# Altium footprint library pinhead.PCBLIB: 100 footprints (part 3 of 7)
Each footprint in its own frame and in the unit in brackets; x right, y up, seen from the top. Pads: shape width x height; smd on the part's side, far side on the other; paste and mask are expansions set on the pad; w line width, h text height; cw(c..) or ccw(c..) is an arc to the next point about the centre after c.
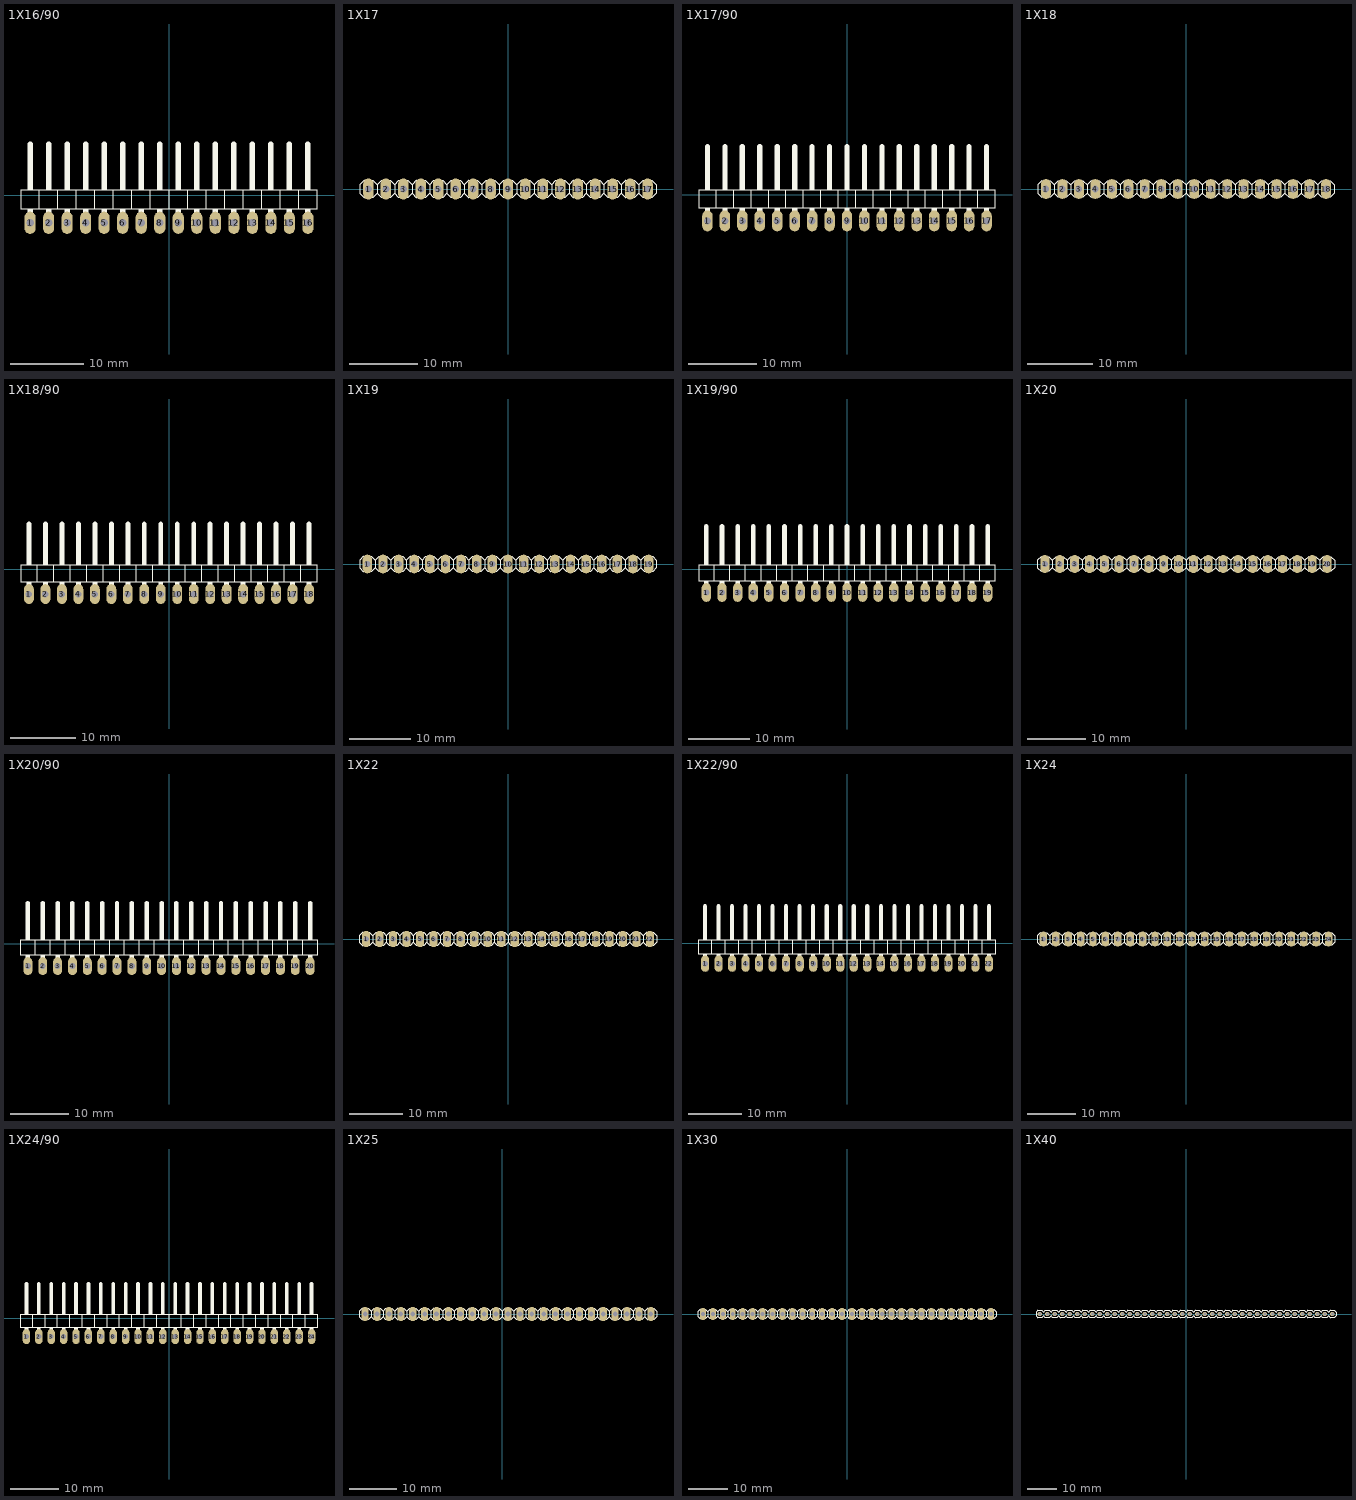
[diagram p2: the footprints below, top view; thin cyan lines are the x and y axes]

## 1X16/90 [mil]
pads (16):
  oval 60x120 hole 40: 1(-750,-150) 2(-650,-150) 3(-550,-150) 4(-450,-150) 5(-350,-150) 6(-250,-150) 7(-150,-150) 8(-50,-150) 9(50,-150) 10(150,-150) 11(250,-150) 12(350,-150) 13(450,-150) 14(550,-150) 15(650,-150) 16(750,-150)
Top Overlay:
  rectangle: -765,25 -735,45
  rectangle: -665,25 -635,45
  rectangle: -565,25 -535,45
  rectangle: -465,25 -435,45
  rectangle: -365,25 -335,45
  rectangle: -265,25 -235,45
  rectangle: -165,25 -135,45
  rectangle: -65,25 -35,45
  rectangle: 35,25 65,45
  rectangle: 135,25 165,45
  rectangle: 235,25 265,45
  rectangle: 335,25 365,45
  rectangle: 435,25 465,45
  rectangle: 535,25 565,45
  rectangle: 635,25 665,45
  rectangle: 735,25 765,45
  rectangle: -765,-115 -735,-75
  rectangle: -665,-115 -635,-75
  rectangle: -565,-115 -535,-75
  rectangle: -465,-115 -435,-75
  rectangle: -365,-115 -335,-75
  rectangle: -265,-115 -235,-75
  rectangle: -165,-115 -135,-75
  rectangle: -65,-115 -35,-75
  rectangle: 35,-115 65,-75
  rectangle: 135,-115 165,-75
  rectangle: 235,-115 265,-75
  rectangle: 335,-115 365,-75
  rectangle: 435,-115 465,-75
  rectangle: 535,-115 565,-75
  rectangle: 635,-115 665,-75
  rectangle: 735,-115 765,-75
  lines w6: -700,-75 -800,-75 -800,25 -700,25 ; -700,-75 -700,25 ; -700,-75 -600,-75 ; -700,25 -600,25 ; -600,-75 -600,25 ; -600,-75 -500,-75 ; -600,25 -500,25 ; -500,-75 -500,25 ; -500,-75 -400,-75 ; -500,25 -400,25 ; -400,-75 -400,25 ; -400,-75 -300,-75 ; -400,25 -300,25 ; -300,-75 -300,25 ; -300,-75 -200,-75 ; -300,25 -200,25 ; -200,-75 -200,25 ; -200,-75 -100,-75 ; -200,25 -100,25 ; -100,-75 -100,25 ; -100,-75 0,-75 ; -100,25 0,25 ; 0,-75 0,25 ; 0,-75 100,-75 ; 0,25 100,25 ; 100,-75 100,25 ; 100,-75 200,-75 ; 100,25 200,25 ; 200,-75 200,25 ; 200,-75 300,-75 ; 200,25 300,25 ; 300,-75 300,25 ; 300,-75 400,-75 ; 300,25 400,25 ; 400,-75 400,25 ; 400,-75 500,-75 ; 400,25 500,25 ; 500,-75 500,25 ; 500,-75 600,-75 ; 500,25 600,25 ; 600,-75 600,25 ; 600,-75 700,-75 ; 600,25 700,25 ; 700,-75 700,25 ; 700,-75 800,-75 800,25 700,25
  lines w30: -750,50 -750,275 ; -650,50 -650,275 ; -550,50 -550,275 ; -450,50 -450,275 ; -350,50 -350,275 ; -250,50 -250,275 ; -150,50 -150,275 ; -50,50 -50,275 ; 50,50 50,275 ; 150,50 150,275 ; 250,50 250,275 ; 350,50 350,275 ; 450,50 450,275 ; 550,50 550,275 ; 650,50 650,275 ; 750,50 750,275

## 1X17 [mil]
pads (17):
  oval 60x120 hole 40: 1(-800,0) 2(-700,0) 3(-600,0) 4(-500,0) 5(-400,0) 6(-300,0) 7(-200,0) 8(-100,0) 9(0,0) 10(100,0) 11(200,0) 12(300,0) 13(400,0) 14(500,0) 15(600,0) 16(700,0) 17(800,0)
Top Overlay:
  lines w6: -750,-25 -750,25 ; -750,-25 -775,-50 -825,-50 -850,-25 -850,25 -825,50 -775,50 -750,25 ; -750,-25 -725,-50 -675,-50 -650,-25 ; -750,25 -725,50 -675,50 -650,25 ; -650,-25 -625,-50 -575,-50 -550,-25 ; -650,-25 -650,25 ; -650,25 -625,50 -575,50 -550,25 ; -550,-25 -550,25 ; -550,-25 -525,-50 -475,-50 -450,-25 ; -550,25 -525,50 -475,50 -450,25 ; -450,-25 -450,25 ; -450,-25 -425,-50 -375,-50 -350,-25 ; -450,25 -425,50 -375,50 -350,25 ; -350,-25 -325,-50 -275,-50 -250,-25 ; -350,-25 -350,25 ; -350,25 -325,50 -275,50 -250,25 ; -250,-25 -250,25 ; -250,-25 -225,-50 -175,-50 -150,-25 ; -250,25 -225,50 -175,50 -150,25 ; -150,-25 -150,25 ; -150,-25 -125,-50 -75,-50 -50,-25 ; -150,25 -125,50 -75,50 -50,25 ; -50,-25 -25,-50 25,-50 50,-25 ; -50,-25 -50,25 ; -50,25 -25,50 25,50 50,25 ; 50,-25 50,25 ; 50,-25 75,-50 125,-50 150,-25 ; 50,25 75,50 125,50 150,25 ; 150,-25 150,25 ; 150,-25 175,-50 225,-50 250,-25 ; 150,25 175,50 225,50 250,25 ; 250,-25 275,-50 325,-50 350,-25 ; 250,-25 250,25 ; 250,25 275,50 325,50 350,25 ; 350,-25 350,25 ; 350,-25 375,-50 425,-50 450,-25 ; 350,25 375,50 425,50 450,25 ; 450,-25 450,25 ; 450,-25 475,-50 525,-50 550,-25 ; 450,25 475,50 525,50 550,25 ; 550,-25 575,-50 625,-50 650,-25 ; 550,-25 550,25 ; 550,25 575,50 625,50 650,25 ; 650,-25 650,25 ; 650,-25 675,-50 725,-50 750,-25 ; 650,25 675,50 725,50 750,25 ; 750,-25 750,25 ; 750,-25 775,-50 825,-50 850,-25 850,25 825,50 775,50 750,25
Mechanical 16:
  rectangle: 690,-10 710,10
  rectangle: 590,-10 610,10
  rectangle: 490,-10 510,10
  rectangle: 390,-10 410,10
  rectangle: 290,-10 310,10
  rectangle: 190,-10 210,10
  rectangle: 90,-10 110,10
  rectangle: -10,-10 10,10
  rectangle: -110,-10 -90,10
  rectangle: -210,-10 -190,10
  rectangle: -310,-10 -290,10
  rectangle: -410,-10 -390,10
  rectangle: -510,-10 -490,10
  rectangle: -610,-10 -590,10
  rectangle: -710,-10 -690,10
  rectangle: -810,-10 -790,10
  rectangle: 790,-10 810,10

## 1X17/90 [mil]
pads (17):
  oval 60x120 hole 40: 1(-800,-150) 2(-700,-150) 3(-600,-150) 4(-500,-150) 5(-400,-150) 6(-300,-150) 7(-200,-150) 8(-100,-150) 9(0,-150) 10(100,-150) 11(200,-150) 12(300,-150) 13(400,-150) 14(500,-150) 15(600,-150) 16(700,-150) 17(800,-150)
Top Overlay:
  rectangle: -815,25 -785,45
  rectangle: -715,25 -685,45
  rectangle: -615,25 -585,45
  rectangle: -515,25 -485,45
  rectangle: -415,25 -385,45
  rectangle: -315,25 -285,45
  rectangle: -215,25 -185,45
  rectangle: -115,25 -85,45
  rectangle: -15,25 15,45
  rectangle: 85,25 115,45
  rectangle: 185,25 215,45
  rectangle: 285,25 315,45
  rectangle: 385,25 415,45
  rectangle: 485,25 515,45
  rectangle: 585,25 615,45
  rectangle: 685,25 715,45
  rectangle: 785,25 815,45
  rectangle: -815,-115 -785,-75
  rectangle: -715,-115 -685,-75
  rectangle: -615,-115 -585,-75
  rectangle: -515,-115 -485,-75
  rectangle: -415,-115 -385,-75
  rectangle: -315,-115 -285,-75
  rectangle: -215,-115 -185,-75
  rectangle: -115,-115 -85,-75
  rectangle: -15,-115 15,-75
  rectangle: 85,-115 115,-75
  rectangle: 185,-115 215,-75
  rectangle: 285,-115 315,-75
  rectangle: 385,-115 415,-75
  rectangle: 485,-115 515,-75
  rectangle: 585,-115 615,-75
  rectangle: 685,-115 715,-75
  rectangle: 785,-115 815,-75
  lines w6: -750,-75 -850,-75 -850,25 -750,25 ; -750,-75 -750,25 ; -750,-75 -650,-75 ; -750,25 -650,25 ; -650,-75 -650,25 ; -650,-75 -550,-75 ; -650,25 -550,25 ; -550,-75 -550,25 ; -550,-75 -450,-75 ; -550,25 -450,25 ; -450,-75 -450,25 ; -450,-75 -350,-75 ; -450,25 -350,25 ; -350,-75 -350,25 ; -350,-75 -250,-75 ; -350,25 -250,25 ; -250,-75 -250,25 ; -250,-75 -150,-75 ; -250,25 -150,25 ; -150,-75 -150,25 ; -150,-75 -50,-75 ; -150,25 -50,25 ; -50,-75 -50,25 ; -50,-75 50,-75 ; -50,25 50,25 ; 50,-75 50,25 ; 50,-75 150,-75 ; 50,25 150,25 ; 150,-75 150,25 ; 150,-75 250,-75 ; 150,25 250,25 ; 250,-75 250,25 ; 250,-75 350,-75 ; 250,25 350,25 ; 350,-75 350,25 ; 350,-75 450,-75 ; 350,25 450,25 ; 450,-75 450,25 ; 450,-75 550,-75 ; 450,25 550,25 ; 550,-75 550,25 ; 550,-75 650,-75 ; 550,25 650,25 ; 650,-75 650,25 ; 650,-75 750,-75 ; 650,25 750,25 ; 750,-75 750,25 ; 750,-75 850,-75 850,25 750,25
  lines w30: -800,50 -800,275 ; -700,50 -700,275 ; -600,50 -600,275 ; -500,50 -500,275 ; -400,50 -400,275 ; -300,50 -300,275 ; -200,50 -200,275 ; -100,50 -100,275 ; 0,50 0,275 ; 100,50 100,275 ; 200,50 200,275 ; 300,50 300,275 ; 400,50 400,275 ; 500,50 500,275 ; 600,50 600,275 ; 700,50 700,275 ; 800,50 800,275

## 1X18 [mil]
pads (18):
  oval 60x120 hole 40: 1(-850,0) 2(-750,0) 3(-650,0) 4(-550,0) 5(-450,0) 6(-350,0) 7(-250,0) 8(-150,0) 9(-50,0) 10(50,0) 11(150,0) 12(250,0) 13(350,0) 14(450,0) 15(550,0) 16(650,0) 17(750,0) 18(850,0)
Top Overlay:
  lines w6: -800,-25 -800,25 ; -800,-25 -825,-50 -875,-50 -900,-25 -900,25 -875,50 -825,50 -800,25 ; -800,-25 -775,-50 -725,-50 -700,-25 ; -800,25 -775,50 -725,50 -700,25 ; -700,-25 -675,-50 -625,-50 -600,-25 ; -700,-25 -700,25 ; -700,25 -675,50 -625,50 -600,25 ; -600,-25 -600,25 ; -600,-25 -575,-50 -525,-50 -500,-25 ; -600,25 -575,50 -525,50 -500,25 ; -500,-25 -500,25 ; -500,-25 -475,-50 -425,-50 -400,-25 ; -500,25 -475,50 -425,50 -400,25 ; -400,-25 -375,-50 -325,-50 -300,-25 ; -400,-25 -400,25 ; -400,25 -375,50 -325,50 -300,25 ; -300,-25 -300,25 ; -300,-25 -275,-50 -225,-50 -200,-25 ; -300,25 -275,50 -225,50 -200,25 ; -200,-25 -200,25 ; -200,-25 -175,-50 -125,-50 -100,-25 ; -200,25 -175,50 -125,50 -100,25 ; -100,-25 -75,-50 -25,-50 0,-25 ; -100,-25 -100,25 ; -100,25 -75,50 -25,50 0,25 ; 0,-25 0,25 ; 0,-25 25,-50 75,-50 100,-25 ; 0,25 25,50 75,50 100,25 ; 100,-25 100,25 ; 100,-25 125,-50 175,-50 200,-25 ; 100,25 125,50 175,50 200,25 ; 200,-25 225,-50 275,-50 300,-25 ; 200,-25 200,25 ; 200,25 225,50 275,50 300,25 ; 300,-25 300,25 ; 300,-25 325,-50 375,-50 400,-25 ; 300,25 325,50 375,50 400,25 ; 400,-25 400,25 ; 400,-25 425,-50 475,-50 500,-25 ; 400,25 425,50 475,50 500,25 ; 500,-25 525,-50 575,-50 600,-25 ; 500,-25 500,25 ; 500,25 525,50 575,50 600,25 ; 600,-25 600,25 ; 600,-25 625,-50 675,-50 700,-25 ; 600,25 625,50 675,50 700,25 ; 700,-25 700,25 ; 700,-25 725,-50 775,-50 800,-25 ; 700,25 725,50 775,50 800,25 ; 800,-25 800,25 ; 800,-25 825,-50 875,-50 900,-25 900,25 875,50 825,50 800,25
Mechanical 16:
  rectangle: 740,-10 760,10
  rectangle: 640,-10 660,10
  rectangle: 540,-10 560,10
  rectangle: 440,-10 460,10
  rectangle: 340,-10 360,10
  rectangle: 240,-10 260,10
  rectangle: 140,-10 160,10
  rectangle: 40,-10 60,10
  rectangle: -60,-10 -40,10
  rectangle: -160,-10 -140,10
  rectangle: -260,-10 -240,10
  rectangle: -360,-10 -340,10
  rectangle: -460,-10 -440,10
  rectangle: -560,-10 -540,10
  rectangle: -660,-10 -640,10
  rectangle: -760,-10 -740,10
  rectangle: -860,-10 -840,10
  rectangle: 840,-10 860,10

## 1X18/90 [mil]
pads (18):
  oval 60x120 hole 40: 1(-850,-150) 2(-750,-150) 3(-650,-150) 4(-550,-150) 5(-450,-150) 6(-350,-150) 7(-250,-150) 8(-150,-150) 9(-50,-150) 10(50,-150) 11(150,-150) 12(250,-150) 13(350,-150) 14(450,-150) 15(550,-150) 16(650,-150) 17(750,-150) 18(850,-150)
Top Overlay:
  rectangle: -865,25 -835,45
  rectangle: -765,25 -735,45
  rectangle: -665,25 -635,45
  rectangle: -565,25 -535,45
  rectangle: -465,25 -435,45
  rectangle: -365,25 -335,45
  rectangle: -265,25 -235,45
  rectangle: -165,25 -135,45
  rectangle: -65,25 -35,45
  rectangle: 35,25 65,45
  rectangle: 135,25 165,45
  rectangle: 235,25 265,45
  rectangle: 335,25 365,45
  rectangle: 435,25 465,45
  rectangle: 535,25 565,45
  rectangle: 635,25 665,45
  rectangle: 735,25 765,45
  rectangle: 835,25 865,45
  rectangle: -865,-115 -835,-75
  rectangle: -765,-115 -735,-75
  rectangle: -665,-115 -635,-75
  rectangle: -565,-115 -535,-75
  rectangle: -465,-115 -435,-75
  rectangle: -365,-115 -335,-75
  rectangle: -265,-115 -235,-75
  rectangle: -165,-115 -135,-75
  rectangle: -65,-115 -35,-75
  rectangle: 35,-115 65,-75
  rectangle: 135,-115 165,-75
  rectangle: 235,-115 265,-75
  rectangle: 335,-115 365,-75
  rectangle: 435,-115 465,-75
  rectangle: 535,-115 565,-75
  rectangle: 635,-115 665,-75
  rectangle: 735,-115 765,-75
  rectangle: 835,-115 865,-75
  lines w6: -800,-75 -900,-75 -900,25 -800,25 ; -800,-75 -800,25 ; -800,-75 -700,-75 ; -800,25 -700,25 ; -700,-75 -700,25 ; -700,-75 -600,-75 ; -700,25 -600,25 ; -600,-75 -600,25 ; -600,-75 -500,-75 ; -600,25 -500,25 ; -500,-75 -500,25 ; -500,-75 -400,-75 ; -500,25 -400,25 ; -400,-75 -400,25 ; -400,-75 -300,-75 ; -400,25 -300,25 ; -300,-75 -300,25 ; -300,-75 -200,-75 ; -300,25 -200,25 ; -200,-75 -200,25 ; -200,-75 -100,-75 ; -200,25 -100,25 ; -100,-75 -100,25 ; -100,-75 0,-75 ; -100,25 0,25 ; 0,-75 0,25 ; 0,-75 100,-75 ; 0,25 100,25 ; 100,-75 100,25 ; 100,-75 200,-75 ; 100,25 200,25 ; 200,-75 200,25 ; 200,-75 300,-75 ; 200,25 300,25 ; 300,-75 300,25 ; 300,-75 400,-75 ; 300,25 400,25 ; 400,-75 400,25 ; 400,-75 500,-75 ; 400,25 500,25 ; 500,-75 500,25 ; 500,-75 600,-75 ; 500,25 600,25 ; 600,-75 600,25 ; 600,-75 700,-75 ; 600,25 700,25 ; 700,-75 700,25 ; 700,-75 800,-75 ; 700,25 800,25 ; 800,-75 800,25 ; 800,-75 900,-75 900,25 800,25
  lines w30: -850,50 -850,275 ; -750,50 -750,275 ; -650,50 -650,275 ; -550,50 -550,275 ; -450,50 -450,275 ; -350,50 -350,275 ; -250,50 -250,275 ; -150,50 -150,275 ; -50,50 -50,275 ; 50,50 50,275 ; 150,50 150,275 ; 250,50 250,275 ; 350,50 350,275 ; 450,50 450,275 ; 550,50 550,275 ; 650,50 650,275 ; 750,50 750,275 ; 850,50 850,275

## 1X19 [mil]
pads (19):
  oval 60x120 hole 40: 1(-900,0) 2(-800,0) 3(-700,0) 4(-600,0) 5(-500,0) 6(-400,0) 7(-300,0) 8(-200,0) 9(-100,0) 10(0,0) 11(100,0) 12(200,0) 13(300,0) 14(400,0) 15(500,0) 16(600,0) 17(700,0) 18(800,0) 19(900,0)
Top Overlay:
  lines w6: -850,-25 -850,25 ; -850,-25 -875,-50 -925,-50 -950,-25 -950,25 -925,50 -875,50 -850,25 ; -850,-25 -825,-50 -775,-50 -750,-25 ; -850,25 -825,50 -775,50 -750,25 ; -750,-25 -725,-50 -675,-50 -650,-25 ; -750,-25 -750,25 ; -750,25 -725,50 -675,50 -650,25 ; -650,-25 -650,25 ; -650,-25 -625,-50 -575,-50 -550,-25 ; -650,25 -625,50 -575,50 -550,25 ; -550,-25 -550,25 ; -550,-25 -525,-50 -475,-50 -450,-25 ; -550,25 -525,50 -475,50 -450,25 ; -450,-25 -425,-50 -375,-50 -350,-25 ; -450,-25 -450,25 ; -450,25 -425,50 -375,50 -350,25 ; -350,-25 -350,25 ; -350,-25 -325,-50 -275,-50 -250,-25 ; -350,25 -325,50 -275,50 -250,25 ; -250,-25 -250,25 ; -250,-25 -225,-50 -175,-50 -150,-25 ; -250,25 -225,50 -175,50 -150,25 ; -150,-25 -125,-50 -75,-50 -50,-25 ; -150,-25 -150,25 ; -150,25 -125,50 -75,50 -50,25 ; -50,-25 -50,25 ; -50,-25 -25,-50 25,-50 50,-25 ; -50,25 -25,50 25,50 50,25 ; 50,-25 50,25 ; 50,-25 75,-50 125,-50 150,-25 ; 50,25 75,50 125,50 150,25 ; 150,-25 175,-50 225,-50 250,-25 ; 150,-25 150,25 ; 150,25 175,50 225,50 250,25 ; 250,-25 250,25 ; 250,-25 275,-50 325,-50 350,-25 ; 250,25 275,50 325,50 350,25 ; 350,-25 350,25 ; 350,-25 375,-50 425,-50 450,-25 ; 350,25 375,50 425,50 450,25 ; 450,-25 475,-50 525,-50 550,-25 ; 450,-25 450,25 ; 450,25 475,50 525,50 550,25 ; 550,-25 550,25 ; 550,-25 575,-50 625,-50 650,-25 ; 550,25 575,50 625,50 650,25 ; 650,-25 650,25 ; 650,-25 675,-50 725,-50 750,-25 ; 650,25 675,50 725,50 750,25 ; 750,-25 775,-50 825,-50 850,-25 ; 750,-25 750,25 ; 750,25 775,50 825,50 850,25 ; 850,-25 850,25 ; 850,-25 875,-50 925,-50 950,-25 950,25 925,50 875,50 850,25
Mechanical 16:
  rectangle: 790,-10 810,10
  rectangle: 690,-10 710,10
  rectangle: 590,-10 610,10
  rectangle: 490,-10 510,10
  rectangle: 390,-10 410,10
  rectangle: 290,-10 310,10
  rectangle: 190,-10 210,10
  rectangle: 90,-10 110,10
  rectangle: -10,-10 10,10
  rectangle: -110,-10 -90,10
  rectangle: -210,-10 -190,10
  rectangle: -310,-10 -290,10
  rectangle: -410,-10 -390,10
  rectangle: -510,-10 -490,10
  rectangle: -610,-10 -590,10
  rectangle: -710,-10 -690,10
  rectangle: -810,-10 -790,10
  rectangle: -910,-10 -890,10
  rectangle: 890,-10 910,10

## 1X19/90 [mil]
pads (19):
  oval 60x120 hole 40: 1(-900,-150) 2(-800,-150) 3(-700,-150) 4(-600,-150) 5(-500,-150) 6(-400,-150) 7(-300,-150) 8(-200,-150) 9(-100,-150) 10(0,-150) 11(100,-150) 12(200,-150) 13(300,-150) 14(400,-150) 15(500,-150) 16(600,-150) 17(700,-150) 18(800,-150) 19(900,-150)
Top Overlay:
  rectangle: -915,25 -885,45
  rectangle: -815,25 -785,45
  rectangle: -715,25 -685,45
  rectangle: -615,25 -585,45
  rectangle: -515,25 -485,45
  rectangle: -415,25 -385,45
  rectangle: -315,25 -285,45
  rectangle: -215,25 -185,45
  rectangle: -115,25 -85,45
  rectangle: -15,25 15,45
  rectangle: 85,25 115,45
  rectangle: 185,25 215,45
  rectangle: 285,25 315,45
  rectangle: 385,25 415,45
  rectangle: 485,25 515,45
  rectangle: 585,25 615,45
  rectangle: 685,25 715,45
  rectangle: 785,25 815,45
  rectangle: 885,25 915,45
  rectangle: -915,-115 -885,-75
  rectangle: -815,-115 -785,-75
  rectangle: -715,-115 -685,-75
  rectangle: -615,-115 -585,-75
  rectangle: -515,-115 -485,-75
  rectangle: -415,-115 -385,-75
  rectangle: -315,-115 -285,-75
  rectangle: -215,-115 -185,-75
  rectangle: -115,-115 -85,-75
  rectangle: -15,-115 15,-75
  rectangle: 85,-115 115,-75
  rectangle: 185,-115 215,-75
  rectangle: 285,-115 315,-75
  rectangle: 385,-115 415,-75
  rectangle: 485,-115 515,-75
  rectangle: 585,-115 615,-75
  rectangle: 685,-115 715,-75
  rectangle: 785,-115 815,-75
  rectangle: 885,-115 915,-75
  lines w6: -850,-75 -950,-75 -950,25 -850,25 ; -850,-75 -850,25 ; -850,-75 -750,-75 ; -850,25 -750,25 ; -750,-75 -750,25 ; -750,-75 -650,-75 ; -750,25 -650,25 ; -650,-75 -650,25 ; -650,-75 -550,-75 ; -650,25 -550,25 ; -550,-75 -550,25 ; -550,-75 -450,-75 ; -550,25 -450,25 ; -450,-75 -450,25 ; -450,-75 -350,-75 ; -450,25 -350,25 ; -350,-75 -350,25 ; -350,-75 -250,-75 ; -350,25 -250,25 ; -250,-75 -250,25 ; -250,-75 -150,-75 ; -250,25 -150,25 ; -150,-75 -150,25 ; -150,-75 -50,-75 ; -150,25 -50,25 ; -50,-75 -50,25 ; -50,-75 50,-75 ; -50,25 50,25 ; 50,-75 50,25 ; 50,-75 150,-75 ; 50,25 150,25 ; 150,-75 150,25 ; 150,-75 250,-75 ; 150,25 250,25 ; 250,-75 250,25 ; 250,-75 350,-75 ; 250,25 350,25 ; 350,-75 350,25 ; 350,-75 450,-75 ; 350,25 450,25 ; 450,-75 450,25 ; 450,-75 550,-75 ; 450,25 550,25 ; 550,-75 550,25 ; 550,-75 650,-75 ; 550,25 650,25 ; 650,-75 650,25 ; 650,-75 750,-75 ; 650,25 750,25 ; 750,-75 750,25 ; 750,-75 850,-75 ; 750,25 850,25 ; 850,-75 850,25 ; 850,-75 950,-75 950,25 850,25
  lines w30: -900,50 -900,275 ; -800,50 -800,275 ; -700,50 -700,275 ; -600,50 -600,275 ; -500,50 -500,275 ; -400,50 -400,275 ; -300,50 -300,275 ; -200,50 -200,275 ; -100,50 -100,275 ; 0,50 0,275 ; 100,50 100,275 ; 200,50 200,275 ; 300,50 300,275 ; 400,50 400,275 ; 500,50 500,275 ; 600,50 600,275 ; 700,50 700,275 ; 800,50 800,275 ; 900,50 900,275

## 1X20 [mil]
pads (20):
  oval 60x120 hole 40: 1(-950,0) 2(-850,0) 3(-750,0) 4(-650,0) 5(-550,0) 6(-450,0) 7(-350,0) 8(-250,0) 9(-150,0) 10(-50,0) 11(50,0) 12(150,0) 13(250,0) 14(350,0) 15(450,0) 16(550,0) 17(650,0) 18(750,0) 19(850,0) 20(950,0)
Top Overlay:
  lines w6: -900,-25 -900,25 ; -900,-25 -925,-50 -975,-50 -1000,-25 -1000,25 -975,50 -925,50 -900,25 ; -900,-25 -875,-50 -825,-50 -800,-25 ; -900,25 -875,50 -825,50 -800,25 ; -800,-25 -775,-50 -725,-50 -700,-25 ; -800,-25 -800,25 ; -800,25 -775,50 -725,50 -700,25 ; -700,-25 -700,25 ; -700,-25 -675,-50 -625,-50 -600,-25 ; -700,25 -675,50 -625,50 -600,25 ; -600,-25 -600,25 ; -600,-25 -575,-50 -525,-50 -500,-25 ; -600,25 -575,50 -525,50 -500,25 ; -500,-25 -475,-50 -425,-50 -400,-25 ; -500,-25 -500,25 ; -500,25 -475,50 -425,50 -400,25 ; -400,-25 -400,25 ; -400,-25 -375,-50 -325,-50 -300,-25 ; -400,25 -375,50 -325,50 -300,25 ; -300,-25 -300,25 ; -300,-25 -275,-50 -225,-50 -200,-25 ; -300,25 -275,50 -225,50 -200,25 ; -200,-25 -175,-50 -125,-50 -100,-25 ; -200,-25 -200,25 ; -200,25 -175,50 -125,50 -100,25 ; -100,-25 -100,25 ; -100,-25 -75,-50 -25,-50 0,-25 ; -100,25 -75,50 -25,50 0,25 ; 0,-25 0,25 ; 0,-25 25,-50 75,-50 100,-25 ; 0,25 25,50 75,50 100,25 ; 100,-25 125,-50 175,-50 200,-25 ; 100,-25 100,25 ; 100,25 125,50 175,50 200,25 ; 200,-25 200,25 ; 200,-25 225,-50 275,-50 300,-25 ; 200,25 225,50 275,50 300,25 ; 300,-25 300,25 ; 300,-25 325,-50 375,-50 400,-25 ; 300,25 325,50 375,50 400,25 ; 400,-25 425,-50 475,-50 500,-25 ; 400,-25 400,25 ; 400,25 425,50 475,50 500,25 ; 500,-25 500,25 ; 500,-25 525,-50 575,-50 600,-25 ; 500,25 525,50 575,50 600,25 ; 600,-25 600,25 ; 600,-25 625,-50 675,-50 700,-25 ; 600,25 625,50 675,50 700,25 ; 700,-25 725,-50 775,-50 800,-25 ; 700,-25 700,25 ; 700,25 725,50 775,50 800,25 ; 800,-25 800,25 ; 800,-25 825,-50 875,-50 900,-25 ; 800,25 825,50 875,50 900,25 ; 900,-25 900,25 ; 900,-25 925,-50 975,-50 1000,-25 1000,25 975,50 925,50 900,25
Mechanical 16:
  rectangle: 840,-10 860,10
  rectangle: 740,-10 760,10
  rectangle: 640,-10 660,10
  rectangle: 540,-10 560,10
  rectangle: 440,-10 460,10
  rectangle: 340,-10 360,10
  rectangle: 240,-10 260,10
  rectangle: 140,-10 160,10
  rectangle: 40,-10 60,10
  rectangle: -60,-10 -40,10
  rectangle: -160,-10 -140,10
  rectangle: -260,-10 -240,10
  rectangle: -360,-10 -340,10
  rectangle: -460,-10 -440,10
  rectangle: -560,-10 -540,10
  rectangle: -660,-10 -640,10
  rectangle: -760,-10 -740,10
  rectangle: -860,-10 -840,10
  rectangle: -960,-10 -940,10
  rectangle: 940,-10 960,10

## 1X20/90 [mil]
pads (20):
  oval 60x120 hole 40: 1(-950,-150) 2(-850,-150) 3(-750,-150) 4(-650,-150) 5(-550,-150) 6(-450,-150) 7(-350,-150) 8(-250,-150) 9(-150,-150) 10(-50,-150) 11(50,-150) 12(150,-150) 13(250,-150) 14(350,-150) 15(450,-150) 16(550,-150) 17(650,-150) 18(750,-150) 19(850,-150) 20(950,-150)
Top Overlay:
  rectangle: -965,25 -935,45
  rectangle: -865,25 -835,45
  rectangle: -765,25 -735,45
  rectangle: -665,25 -635,45
  rectangle: -565,25 -535,45
  rectangle: -465,25 -435,45
  rectangle: -365,25 -335,45
  rectangle: -265,25 -235,45
  rectangle: -165,25 -135,45
  rectangle: -65,25 -35,45
  rectangle: 35,25 65,45
  rectangle: 135,25 165,45
  rectangle: 235,25 265,45
  rectangle: 335,25 365,45
  rectangle: 435,25 465,45
  rectangle: 535,25 565,45
  rectangle: 635,25 665,45
  rectangle: 735,25 765,45
  rectangle: 835,25 865,45
  rectangle: 935,25 965,45
  rectangle: -965,-115 -935,-75
  rectangle: -865,-115 -835,-75
  rectangle: -765,-115 -735,-75
  rectangle: -665,-115 -635,-75
  rectangle: -565,-115 -535,-75
  rectangle: -465,-115 -435,-75
  rectangle: -365,-115 -335,-75
  rectangle: -265,-115 -235,-75
  rectangle: -165,-115 -135,-75
  rectangle: -65,-115 -35,-75
  rectangle: 35,-115 65,-75
  rectangle: 135,-115 165,-75
  rectangle: 235,-115 265,-75
  rectangle: 335,-115 365,-75
  rectangle: 435,-115 465,-75
  rectangle: 535,-115 565,-75
  rectangle: 635,-115 665,-75
  rectangle: 735,-115 765,-75
  rectangle: 835,-115 865,-75
  rectangle: 935,-115 965,-75
  lines w6: -900,-75 -1000,-75 -1000,25 -900,25 ; -900,-75 -900,25 ; -900,-75 -800,-75 ; -900,25 -800,25 ; -800,-75 -800,25 ; -800,-75 -700,-75 ; -800,25 -700,25 ; -700,-75 -700,25 ; -700,-75 -600,-75 ; -700,25 -600,25 ; -600,-75 -600,25 ; -600,-75 -500,-75 ; -600,25 -500,25 ; -500,-75 -500,25 ; -500,-75 -400,-75 ; -500,25 -400,25 ; -400,-75 -400,25 ; -400,-75 -300,-75 ; -400,25 -300,25 ; -300,-75 -300,25 ; -300,-75 -200,-75 ; -300,25 -200,25 ; -200,-75 -200,25 ; -200,-75 -100,-75 ; -200,25 -100,25 ; -100,-75 -100,25 ; -100,-75 0,-75 ; -100,25 0,25 ; 0,-75 0,25 ; 0,-75 100,-75 ; 0,25 100,25 ; 100,-75 100,25 ; 100,-75 200,-75 ; 100,25 200,25 ; 200,-75 200,25 ; 200,-75 300,-75 ; 200,25 300,25 ; 300,-75 300,25 ; 300,-75 400,-75 ; 300,25 400,25 ; 400,-75 400,25 ; 400,-75 500,-75 ; 400,25 500,25 ; 500,-75 500,25 ; 500,-75 600,-75 ; 500,25 600,25 ; 600,-75 600,25 ; 600,-75 700,-75 ; 600,25 700,25 ; 700,-75 700,25 ; 700,-75 800,-75 ; 700,25 800,25 ; 800,-75 800,25 ; 800,-75 900,-75 ; 800,25 900,25 ; 900,-75 900,25 ; 900,-75 1000,-75 1000,25 900,25
  lines w30: -950,50 -950,275 ; -850,50 -850,275 ; -750,50 -750,275 ; -650,50 -650,275 ; -550,50 -550,275 ; -450,50 -450,275 ; -350,50 -350,275 ; -250,50 -250,275 ; -150,50 -150,275 ; -50,50 -50,275 ; 50,50 50,275 ; 150,50 150,275 ; 250,50 250,275 ; 350,50 350,275 ; 450,50 450,275 ; 550,50 550,275 ; 650,50 650,275 ; 750,50 750,275 ; 850,50 850,275 ; 950,50 950,275

## 1X22 [mil]
pads (22):
  oval 60x120 hole 40: 1(-1050,0) 2(-950,0) 3(-850,0) 4(-750,0) 5(-650,0) 6(-550,0) 7(-450,0) 8(-350,0) 9(-250,0) 10(-150,0) 11(-50,0) 12(50,0) 13(150,0) 14(250,0) 15(350,0) 16(450,0) 17(550,0) 18(650,0) 19(750,0) 20(850,0) 21(950,0) 22(1050,0)
Top Overlay:
  drawing of 155 lines, arcs and shapes, not listed
Mechanical 16:
  rectangle: 740,-10 760,10
  rectangle: 640,-10 660,10
  rectangle: 540,-10 560,10
  rectangle: 440,-10 460,10
  rectangle: 340,-10 360,10
  rectangle: 240,-10 260,10
  rectangle: 140,-10 160,10
  rectangle: 40,-10 60,10
  rectangle: -60,-10 -40,10
  rectangle: -160,-10 -140,10
  rectangle: -260,-10 -240,10
  rectangle: -360,-10 -340,10
  rectangle: -460,-10 -440,10
  rectangle: -560,-10 -540,10
  rectangle: -660,-10 -640,10
  rectangle: -760,-10 -740,10
  rectangle: -860,-10 -840,10
  rectangle: -960,-10 -940,10
  rectangle: -1060,-10 -1040,10
  rectangle: 840,-10 860,10
  rectangle: 940,-10 960,10
  rectangle: 1040,-10 1060,10

## 1X22/90 [mil]
pads (22):
  oval 60x120 hole 40: 1(-1050,-150) 2(-950,-150) 3(-850,-150) 4(-750,-150) 5(-650,-150) 6(-550,-150) 7(-450,-150) 8(-350,-150) 9(-250,-150) 10(-150,-150) 11(-50,-150) 12(50,-150) 13(150,-150) 14(250,-150) 15(350,-150) 16(450,-150) 17(550,-150) 18(650,-150) 19(750,-150) 20(850,-150) 21(950,-150) 22(1050,-150)
Top Overlay:
  rectangle: -1065,25 -1035,45
  rectangle: -965,25 -935,45
  rectangle: -865,25 -835,45
  rectangle: -765,25 -735,45
  rectangle: -665,25 -635,45
  rectangle: -565,25 -535,45
  rectangle: -465,25 -435,45
  rectangle: -365,25 -335,45
  rectangle: -265,25 -235,45
  rectangle: -165,25 -135,45
  rectangle: -65,25 -35,45
  rectangle: 35,25 65,45
  rectangle: 135,25 165,45
  rectangle: 235,25 265,45
  rectangle: 335,25 365,45
  rectangle: 435,25 465,45
  rectangle: 535,25 565,45
  rectangle: 635,25 665,45
  rectangle: 735,25 765,45
  rectangle: 835,25 865,45
  rectangle: -1065,-115 -1035,-75
  rectangle: -965,-115 -935,-75
  rectangle: -865,-115 -835,-75
  rectangle: -765,-115 -735,-75
  rectangle: -665,-115 -635,-75
  rectangle: -565,-115 -535,-75
  rectangle: -465,-115 -435,-75
  rectangle: -365,-115 -335,-75
  rectangle: -265,-115 -235,-75
  rectangle: -165,-115 -135,-75
  rectangle: -65,-115 -35,-75
  rectangle: 35,-115 65,-75
  rectangle: 135,-115 165,-75
  rectangle: 235,-115 265,-75
  rectangle: 335,-115 365,-75
  rectangle: 435,-115 465,-75
  rectangle: 535,-115 565,-75
  rectangle: 635,-115 665,-75
  rectangle: 735,-115 765,-75
  rectangle: 835,-115 865,-75
  rectangle: 935,25 965,45
  rectangle: 1035,25 1065,45
  rectangle: 935,-115 965,-75
  rectangle: 1035,-115 1065,-75
  lines w6: -1000,-75 -1100,-75 -1100,25 -1000,25 ; -1000,-75 -1000,25 ; -1000,-75 -900,-75 ; -1000,25 -900,25 ; -900,-75 -900,25 ; -900,-75 -800,-75 ; -900,25 -800,25 ; -800,-75 -800,25 ; -800,-75 -700,-75 ; -800,25 -700,25 ; -700,-75 -700,25 ; -700,-75 -600,-75 ; -700,25 -600,25 ; -600,-75 -600,25 ; -600,-75 -500,-75 ; -600,25 -500,25 ; -500,-75 -500,25 ; -500,-75 -400,-75 ; -500,25 -400,25 ; -400,-75 -400,25 ; -400,-75 -300,-75 ; -400,25 -300,25 ; -300,-75 -300,25 ; -300,-75 -200,-75 ; -300,25 -200,25 ; -200,-75 -200,25 ; -200,-75 -100,-75 ; -200,25 -100,25 ; -100,-75 -100,25 ; -100,-75 0,-75 ; -100,25 0,25 ; 0,-75 0,25 ; 0,-75 100,-75 ; 0,25 100,25 ; 100,-75 100,25 ; 100,-75 200,-75 ; 100,25 200,25 ; 200,-75 200,25 ; 200,-75 300,-75 ; 200,25 300,25 ; 300,-75 300,25 ; 300,-75 400,-75 ; 300,25 400,25 ; 400,-75 400,25 ; 400,-75 500,-75 ; 400,25 500,25 ; 500,-75 500,25 ; 500,-75 600,-75 ; 500,25 600,25 ; 600,-75 600,25 ; 600,-75 700,-75 ; 600,25 700,25 ; 700,-75 700,25 ; 700,-75 800,-75 ; 700,25 800,25 ; 800,-75 800,25 ; 800,-75 900,-75 ; 800,25 900,25 ; 900,-75 900,25 ; 900,-75 1000,-75 ; 900,25 1000,25 ; 1000,-75 1000,25 ; 1000,-75 1100,-75 1100,25 1000,25
  lines w30: -1050,50 -1050,275 ; -950,50 -950,275 ; -850,50 -850,275 ; -750,50 -750,275 ; -650,50 -650,275 ; -550,50 -550,275 ; -450,50 -450,275 ; -350,50 -350,275 ; -250,50 -250,275 ; -150,50 -150,275 ; -50,50 -50,275 ; 50,50 50,275 ; 150,50 150,275 ; 250,50 250,275 ; 350,50 350,275 ; 450,50 450,275 ; 550,50 550,275 ; 650,50 650,275 ; 750,50 750,275 ; 850,50 850,275 ; 950,50 950,275 ; 1050,50 1050,275

## 1X24 [mil]
pads (24):
  oval 60x120 hole 40: 1(-1150,0) 2(-1050,0) 3(-950,0) 4(-850,0) 5(-750,0) 6(-650,0) 7(-550,0) 8(-450,0) 9(-350,0) 10(-250,0) 11(-150,0) 12(-50,0) 13(50,0) 14(150,0) 15(250,0) 16(350,0) 17(450,0) 18(550,0) 19(650,0) 20(750,0) 21(850,0) 22(950,0) 23(1050,0) 24(1150,0)
Top Overlay:
  drawing of 169 lines, arcs and shapes, not listed
Mechanical 16:
  rectangle: 640,-10 660,10
  rectangle: 540,-10 560,10
  rectangle: 440,-10 460,10
  rectangle: 340,-10 360,10
  rectangle: 240,-10 260,10
  rectangle: 140,-10 160,10
  rectangle: 40,-10 60,10
  rectangle: -60,-10 -40,10
  rectangle: -160,-10 -140,10
  rectangle: -260,-10 -240,10
  rectangle: -360,-10 -340,10
  rectangle: -460,-10 -440,10
  rectangle: -560,-10 -540,10
  rectangle: -660,-10 -640,10
  rectangle: -760,-10 -740,10
  rectangle: -860,-10 -840,10
  rectangle: -960,-10 -940,10
  rectangle: -1060,-10 -1040,10
  rectangle: -1160,-10 -1140,10
  rectangle: 740,-10 760,10
  rectangle: 840,-10 860,10
  rectangle: 940,-10 960,10
  rectangle: 1040,-10 1060,10
  rectangle: 1140,-10 1160,10

## 1X24/90 [mil]
pads (24):
  oval 60x120 hole 40: 1(-1150,-150) 2(-1050,-150) 3(-950,-150) 4(-850,-150) 5(-750,-150) 6(-650,-150) 7(-550,-150) 8(-450,-150) 9(-350,-150) 10(-250,-150) 11(-150,-150) 12(-50,-150) 13(50,-150) 14(150,-150) 15(250,-150) 16(350,-150) 17(450,-150) 18(550,-150) 19(650,-150) 20(750,-150) 21(850,-150) 22(950,-150) 23(1050,-150) 24(1150,-150)
Top Overlay:
  rectangle: -1165,25 -1135,45
  rectangle: -1065,25 -1035,45
  rectangle: -965,25 -935,45
  rectangle: -865,25 -835,45
  rectangle: -765,25 -735,45
  rectangle: -665,25 -635,45
  rectangle: -565,25 -535,45
  rectangle: -465,25 -435,45
  rectangle: -365,25 -335,45
  rectangle: -265,25 -235,45
  rectangle: -165,25 -135,45
  rectangle: -65,25 -35,45
  rectangle: 35,25 65,45
  rectangle: 135,25 165,45
  rectangle: 235,25 265,45
  rectangle: 335,25 365,45
  rectangle: 435,25 465,45
  rectangle: 535,25 565,45
  rectangle: 635,25 665,45
  rectangle: 735,25 765,45
  rectangle: -1165,-115 -1135,-75
  rectangle: -1065,-115 -1035,-75
  rectangle: -965,-115 -935,-75
  rectangle: -865,-115 -835,-75
  rectangle: -765,-115 -735,-75
  rectangle: -665,-115 -635,-75
  rectangle: -565,-115 -535,-75
  rectangle: -465,-115 -435,-75
  rectangle: -365,-115 -335,-75
  rectangle: -265,-115 -235,-75
  rectangle: -165,-115 -135,-75
  rectangle: -65,-115 -35,-75
  rectangle: 35,-115 65,-75
  rectangle: 135,-115 165,-75
  rectangle: 235,-115 265,-75
  rectangle: 335,-115 365,-75
  rectangle: 435,-115 465,-75
  rectangle: 535,-115 565,-75
  rectangle: 635,-115 665,-75
  rectangle: 735,-115 765,-75
  rectangle: 835,25 865,45
  rectangle: 935,25 965,45
  rectangle: 835,-115 865,-75
  rectangle: 935,-115 965,-75
  rectangle: 1035,25 1065,45
  rectangle: 1135,25 1165,45
  rectangle: 1035,-115 1065,-75
  rectangle: 1135,-115 1165,-75
  lines w6: -1100,-75 -1200,-75 -1200,25 -1100,25 ; -1100,-75 -1100,25 ; -1100,-75 -1000,-75 ; -1100,25 -1000,25 ; -1000,-75 -1000,25 ; -1000,-75 -900,-75 ; -1000,25 -900,25 ; -900,-75 -900,25 ; -900,-75 -800,-75 ; -900,25 -800,25 ; -800,-75 -800,25 ; -800,-75 -700,-75 ; -800,25 -700,25 ; -700,-75 -700,25 ; -700,-75 -600,-75 ; -700,25 -600,25 ; -600,-75 -600,25 ; -600,-75 -500,-75 ; -600,25 -500,25 ; -500,-75 -500,25 ; -500,-75 -400,-75 ; -500,25 -400,25 ; -400,-75 -400,25 ; -400,-75 -300,-75 ; -400,25 -300,25 ; -300,-75 -300,25 ; -300,-75 -200,-75 ; -300,25 -200,25 ; -200,-75 -200,25 ; -200,-75 -100,-75 ; -200,25 -100,25 ; -100,-75 -100,25 ; -100,-75 0,-75 ; -100,25 0,25 ; 0,-75 0,25 ; 0,-75 100,-75 ; 0,25 100,25 ; 100,-75 100,25 ; 100,-75 200,-75 ; 100,25 200,25 ; 200,-75 200,25 ; 200,-75 300,-75 ; 200,25 300,25 ; 300,-75 300,25 ; 300,-75 400,-75 ; 300,25 400,25 ; 400,-75 400,25 ; 400,-75 500,-75 ; 400,25 500,25 ; 500,-75 500,25 ; 500,-75 600,-75 ; 500,25 600,25 ; 600,-75 600,25 ; 600,-75 700,-75 ; 600,25 700,25 ; 700,-75 700,25 ; 700,-75 800,-75 ; 700,25 800,25 ; 800,-75 800,25 ; 800,-75 900,-75 ; 800,25 900,25 ; 900,-75 900,25 ; 900,-75 1000,-75 ; 900,25 1000,25 ; 1000,-75 1000,25 ; 1000,-75 1100,-75 ; 1000,25 1100,25 ; 1100,-75 1100,25 ; 1100,-75 1200,-75 1200,25 1100,25
  lines w30: -1150,50 -1150,275 ; -1050,50 -1050,275 ; -950,50 -950,275 ; -850,50 -850,275 ; -750,50 -750,275 ; -650,50 -650,275 ; -550,50 -550,275 ; -450,50 -450,275 ; -350,50 -350,275 ; -250,50 -250,275 ; -150,50 -150,275 ; -50,50 -50,275 ; 50,50 50,275 ; 150,50 150,275 ; 250,50 250,275 ; 350,50 350,275 ; 450,50 450,275 ; 550,50 550,275 ; 650,50 650,275 ; 750,50 750,275 ; 850,50 850,275 ; 950,50 950,275 ; 1050,50 1050,275 ; 1150,50 1150,275

## 1X25 [mil]
pads (25):
  oval 60x120 hole 40: 1(-1150,0) 2(-1050,0) 3(-950,0) 4(-850,0) 5(-750,0) 6(-650,0) 7(-550,0) 8(-450,0) 9(-350,0) 10(-250,0) 11(-150,0) 12(-50,0) 13(50,0) 14(150,0) 15(250,0) 16(350,0) 17(450,0) 18(550,0) 19(650,0) 20(750,0) 21(850,0) 22(950,0) 23(1050,0) 24(1150,0) 25(1250,0)
Top Overlay:
  drawing of 176 lines, arcs and shapes, not listed
Mechanical 16:
  rectangle: 640,-10 660,10
  rectangle: 540,-10 560,10
  rectangle: 440,-10 460,10
  rectangle: 340,-10 360,10
  rectangle: 240,-10 260,10
  rectangle: 140,-10 160,10
  rectangle: 40,-10 60,10
  rectangle: -60,-10 -40,10
  rectangle: -160,-10 -140,10
  rectangle: -260,-10 -240,10
  rectangle: -360,-10 -340,10
  rectangle: -460,-10 -440,10
  rectangle: -560,-10 -540,10
  rectangle: -660,-10 -640,10
  rectangle: -760,-10 -740,10
  rectangle: -860,-10 -840,10
  rectangle: -960,-10 -940,10
  rectangle: -1060,-10 -1040,10
  rectangle: -1160,-10 -1140,10
  rectangle: 740,-10 760,10
  rectangle: 840,-10 860,10
  rectangle: 940,-10 960,10
  rectangle: 1040,-10 1060,10
  rectangle: 1140,-10 1160,10
  rectangle: 1240,-10 1260,10

## 1X30 [mil]
pads (30):
  oval 60x120 hole 40: 1(-1450,0) 2(-1350,0) 3(-1250,0) 4(-1150,0) 5(-1050,0) 6(-950,0) 7(-850,0) 8(-750,0) 9(-650,0) 10(-550,0) 11(-450,0) 12(-350,0) 13(-250,0) 14(-150,0) 15(-50,0) 16(50,0) 17(150,0) 18(250,0) 19(350,0) 20(450,0) 21(550,0) 22(650,0) 23(750,0) 24(850,0) 25(950,0) 26(1050,0) 27(1150,0) 28(1250,0) 29(1350,0) 30(1450,0)
Top Overlay:
  drawing of 211 lines, arcs and shapes, not listed
Mechanical 16:
  rectangle: 340,-10 360,10
  rectangle: 240,-10 260,10
  rectangle: 140,-10 160,10
  rectangle: 40,-10 60,10
  rectangle: -60,-10 -40,10
  rectangle: -160,-10 -140,10
  rectangle: -260,-10 -240,10
  rectangle: -360,-10 -340,10
  rectangle: -460,-10 -440,10
  rectangle: -560,-10 -540,10
  rectangle: -660,-10 -640,10
  rectangle: -760,-10 -740,10
  rectangle: -860,-10 -840,10
  rectangle: -960,-10 -940,10
  rectangle: -1060,-10 -1040,10
  rectangle: -1160,-10 -1140,10
  rectangle: -1260,-10 -1240,10
  rectangle: -1360,-10 -1340,10
  rectangle: -1460,-10 -1440,10
  rectangle: 440,-10 460,10
  rectangle: 540,-10 560,10
  rectangle: 640,-10 660,10
  rectangle: 740,-10 760,10
  rectangle: 840,-10 860,10
  rectangle: 940,-10 960,10
  rectangle: 1040,-10 1060,10
  rectangle: 1140,-10 1160,10
  rectangle: 1240,-10 1260,10
  rectangle: 1340,-10 1360,10
  rectangle: 1440,-10 1460,10

## 1X40 [mil]
pads (40):
  round 60 hole 40: 1(-1950,0) 2(-1850,0) 3(-1750,0) 4(-1650,0) 5(-1550,0) 6(-1450,0) 7(-1350,0) 8(-1250,0) 9(-1150,0) 10(-1050,0) 11(-950,0) 12(-850,0) 13(-750,0) 14(-650,0) 15(-550,0) 16(-450,0) 17(-350,0) 18(-250,0) 19(-150,0) 20(-50,0) 21(50,0) 22(150,0) 23(250,0) 24(350,0) 25(450,0) 26(550,0) 27(650,0) 28(750,0) 29(850,0) 30(950,0) 31(1050,0) 32(1150,0) 33(1250,0) 34(1350,0) 35(1450,0) 36(1550,0) 37(1650,0) 38(1750,0) 39(1850,0) 40(1950,0)
Top Overlay:
  drawing of 242 lines, arcs and shapes, not listed
Mechanical 16:
  rectangle: -160,-10 -140,10
  rectangle: -260,-10 -240,10
  rectangle: -360,-10 -340,10
  rectangle: -460,-10 -440,10
  rectangle: -560,-10 -540,10
  rectangle: -660,-10 -640,10
  rectangle: -760,-10 -740,10
  rectangle: -860,-10 -840,10
  rectangle: -960,-10 -940,10
  rectangle: -1060,-10 -1040,10
  rectangle: -1160,-10 -1140,10
  rectangle: -1260,-10 -1240,10
  rectangle: -1360,-10 -1340,10
  rectangle: -1460,-10 -1440,10
  rectangle: -1560,-10 -1540,10
  rectangle: -1660,-10 -1640,10
  rectangle: -1760,-10 -1740,10
  rectangle: -1860,-10 -1840,10
  rectangle: -1960,-10 -1940,10
  rectangle: -60,-10 -40,10
  rectangle: 40,-10 60,10
  rectangle: 140,-10 160,10
  rectangle: 240,-10 260,10
  rectangle: 340,-10 360,10
  rectangle: 440,-10 460,10
  rectangle: 540,-10 560,10
  rectangle: 640,-10 660,10
  rectangle: 740,-10 760,10
  rectangle: 840,-10 860,10
  rectangle: 940,-10 960,10
  rectangle: 1940,-10 1960,10
  rectangle: 1840,-10 1860,10
  rectangle: 1740,-10 1760,10
  rectangle: 1640,-10 1660,10
  rectangle: 1540,-10 1560,10
  rectangle: 1440,-10 1460,10
  rectangle: 1340,-10 1360,10
  rectangle: 1240,-10 1260,10
  rectangle: 1140,-10 1160,10
  rectangle: 1040,-10 1060,10